# Altium footprint library Transistor Optocouplers.PcbLib: 4 footprints
Each footprint in its own frame and in the unit in brackets; x right, y up, seen from the top. Pads: shape width x height; smd on the part's side, far side on the other; paste and mask are expansions set on the pad; w line width, h text height; cw(c..) or ccw(c..) is an arc to the next point about the centre after c.
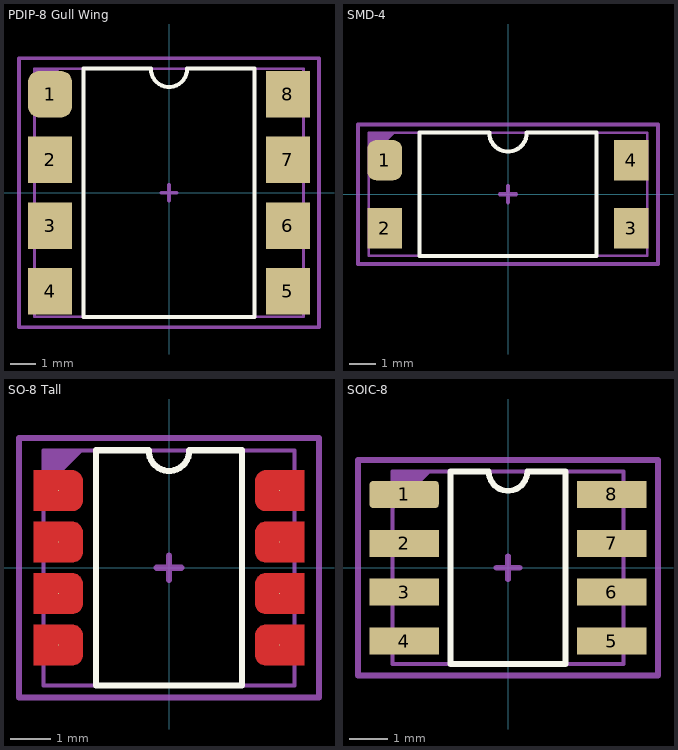
[diagram p0: the footprints below, top view; thin cyan lines are the x and y axes]

## PDIP-8 Gull Wing [mm]
pads (8):
  rrect50% 1.7x1.8 smd: 1(-4.6,3.81)
  rect 1.7x1.8 smd: 2(-4.6,1.27) 3(-4.6,-1.27) 4(-4.6,-3.81) 5(4.6,-3.81) 6(4.6,-1.27) 7(4.6,1.27) 8(4.6,3.81)
Top Overlay:
  lines w0.153: -0.7,4.79 ccw(c0,4.79) 0.7,4.79 ; -0.7,4.8 -3.3,4.8 -3.3,-4.8 3.3,-4.8 3.3,4.8 0.7,4.8
Top Assembly:
  region: -5.2,4.8 -5.2,3.8 -4.2,4.8
  lines w0.1: -5.2,-4.8 -5.2,4.8 5.2,4.8 5.2,-4.8 -5.2,-4.8
  text "'.Designator'" at -4.532,-0.333 h0.8
Top Courtyard (Mech6):
  lines w0.153: -0.3,0 0.3,0 ; 0,-0.3 0,0.3 ; -5.8,-5.2 -5.8,5.2 5.8,5.2 5.8,-5.2 -5.8,-5.2
3D body "HCPL2631S.STEP": height 5.08, standoff 0, extent -5.15,-4.828 5.15,4.828

## SMD-4 [mm]
pads (4):
  rrect50% 1.3x1.5 smd: 1(-4.6,1.27)
  rect 1.3x1.5 smd: 2(-4.6,-1.27) 3(4.6,-1.27) 4(4.6,1.27)
Top Overlay:
  lines w0.153: -0.7,2.29 ccw(c0,2.29) 0.7,2.29 ; -0.7,2.3 -3.3,2.3 -3.3,-2.3 3.3,-2.3 3.3,2.3 0.7,2.3
Top Assembly:
  region: -5.2,2.29 -5.2,1.29 -4.2,2.29
  lines w0.1: -5.2,-2.3 -5.2,2.29 5.2,2.29 5.2,-2.3 -5.2,-2.3
  text "'.Designator'" at -4.532,-0.333 h0.8
Top Courtyard (Mech6):
  lines w0.153: -0.3,0 0.3,0 ; 0,-0.3 0,0.3 ; -5.6,-2.6 -5.6,2.6 5.6,2.6 5.6,-2.6 -5.6,-2.6
3D body "FOD817CS.STEP": height 3.85, standoff 0, extent -5.08,-2.3 5.08,2.3

## SO-8 Tall [mil]
pads (8):
  round 1 smd: 1(-107.48,75) 2(-107.48,25) 3(-107.48,-25) 4(-107.48,-75) 5(107.48,-75) 6(107.48,-25) 7(107.48,25) 8(107.48,75)
Top Layer:
  region: -93.7,55.31 -131.1,55.31 -131.1,94.69 -93.7,94.69 -92.73,94.69 -90.83,94.31 -89.04,93.56 -87.43,92.49 -86.06,91.12 -84.98,89.5 -84.24,87.71 -83.86,85.81 -83.86,84.84 -83.86,65.16 -83.86,64.19 -84.24,62.29 -84.98,60.5 -86.06,58.88 -87.43,57.51 -89.04,56.44 -90.83,55.69 -92.73,55.31
  region: -93.7,-44.69 -131.1,-44.69 -131.1,-5.31 -93.7,-5.31 -92.73,-5.31 -90.83,-5.69 -89.04,-6.44 -87.43,-7.51 -86.06,-8.88 -84.98,-10.5 -84.24,-12.29 -83.86,-14.19 -83.86,-15.16 -83.86,-34.84 -83.86,-35.81 -84.24,-37.71 -84.98,-39.5 -86.06,-41.12 -87.43,-42.49 -89.04,-43.56 -90.83,-44.31 -92.73,-44.69
  region: -93.7,5.31 -131.1,5.31 -131.1,44.69 -93.7,44.69 -92.73,44.69 -90.83,44.31 -89.04,43.56 -87.43,42.49 -86.06,41.12 -84.98,39.5 -84.24,37.71 -83.86,35.81 -83.86,34.84 -83.86,15.16 -83.86,14.19 -84.24,12.29 -84.98,10.5 -86.06,8.88 -87.43,7.51 -89.04,6.44 -90.83,5.69 -92.73,5.31
  region: -93.7,-94.69 -131.1,-94.69 -131.1,-55.31 -93.7,-55.31 -92.73,-55.31 -90.83,-55.69 -89.04,-56.44 -87.43,-57.51 -86.06,-58.88 -84.98,-60.5 -84.24,-62.29 -83.86,-64.19 -83.86,-65.16 -83.86,-84.84 -83.86,-85.81 -84.24,-87.71 -84.98,-89.5 -86.06,-91.12 -87.43,-92.49 -89.04,-93.56 -90.83,-94.31 -92.73,-94.69
  region: 93.7,-94.69 92.73,-94.69 90.83,-94.31 89.04,-93.56 87.43,-92.49 86.06,-91.12 84.98,-89.5 84.24,-87.71 83.86,-85.81 83.86,-84.84 83.86,-65.16 83.86,-64.19 84.24,-62.29 84.98,-60.5 86.06,-58.88 87.43,-57.51 89.04,-56.44 90.83,-55.69 92.73,-55.31 93.7,-55.31 131.1,-55.31 131.1,-94.69
  region: 93.7,-44.69 92.73,-44.69 90.83,-44.31 89.04,-43.56 87.43,-42.49 86.06,-41.12 84.98,-39.5 84.24,-37.71 83.86,-35.81 83.86,-34.84 83.86,-15.16 83.86,-14.19 84.24,-12.29 84.98,-10.5 86.06,-8.88 87.43,-7.51 89.04,-6.44 90.83,-5.69 92.73,-5.31 93.7,-5.31 131.1,-5.31 131.1,-44.69
  region: 93.7,55.31 92.73,55.31 90.83,55.69 89.04,56.44 87.43,57.51 86.06,58.88 84.98,60.5 84.24,62.29 83.86,64.19 83.86,65.16 83.86,84.84 83.86,85.81 84.24,87.71 84.98,89.5 86.06,91.12 87.43,92.49 89.04,93.56 90.83,94.31 92.73,94.69 93.7,94.69 131.1,94.69 131.1,55.31
  region: 93.7,5.31 92.73,5.31 90.83,5.69 89.04,6.44 87.43,7.51 86.06,8.88 84.98,10.5 84.24,12.29 83.86,14.19 83.86,15.16 83.86,34.84 83.86,35.81 84.24,37.71 84.98,39.5 86.06,41.12 87.43,42.49 89.04,43.56 90.83,44.31 92.73,44.69 93.7,44.69 131.1,44.69 131.1,5.31
Top Overlay:
  lines w6.02: -19.68,113.78 ccw(c0,113.78) 19.69,113.78 ; -19.68,114.17 -70.87,114.17 -70.87,-114.17 70.87,-114.17 70.87,114.17 19.69,114.17
Top Assembly:
  region: -122.05,114.17 -122.05,74.8 -82.68,114.17
  lines w3.94: -122.05,-114.17 -122.05,114.17 122.05,114.17 122.05,-114.17 -122.05,-114.17
  text "'.Designator'" at -178.42,-13.12 h31.5
Top Courtyard (Mech6):
  lines w6.02: -11.81,0 11.81,0 ; 0,-11.81 0,11.81 ; -145.67,-125.98 -145.67,125.98 145.67,125.98 145.67,-125.98 -145.67,-125.98
3D body "ILD213T--3DModel-STEP-56544.STEP": height 135, standoff 0, extent -120,-115 120,115

## SOIC-8 [mm]
pads (8):
  rrect25% 1.8x0.7 smd: 1(-2.7,1.905)
  rect 1.8x0.7 smd: 2(-2.7,0.635) 3(-2.7,-0.635) 4(-2.7,-1.905) 5(2.7,-1.905) 6(2.7,-0.635) 7(2.7,0.635) 8(2.7,1.905)
Top Overlay:
  lines w0.153: -1.5,-2.5 1.5,-2.5 1.5,2.5 0.5,2.5 cw(c0,2.5) -0.5,2.5 -1.5,2.5 -1.5,-2.5
Top Assembly:
  region: -3,2.5 -3,1.5 -2,2.5
  lines w0.1: -3,-2.5 -3,2.5 3,2.5 3,-2.5 -3,-2.5
  text "'.Designator'" at -4.532,-0.333 h0.8
Top Courtyard (Mech6):
  lines w0.153: -0.3,0 0.3,0 ; 0,-0.3 0,0.3 ; -3.9,-2.8 3.9,-2.8 3.9,2.8 -3.9,2.8 -3.9,-2.8
3D body "HCPL0531.STEP": height 3.63, standoff 0, extent -2.97,-2.44 2.97,2.44